# Altium schematic symbol library HR911130A.SchLib: 1 symbol
Pins are listed as number, name and electrical type; pins without a type are passive.

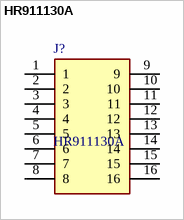
[diagram p0: symbol HR911130A]

## HR911130A
designator J?
SINGLE PORT RJ45 CONNECTOR WITH INTEGRATED MAGNETICS AND LED; Manufacturer_Name: Hanrun Electronics; Geometry.Height: 13mm; Manufacturer_Part_Number: HR911130A; Mouser Part Number: *; Mouser Price/Stock: *; Arrow Part Number: *; Arrow Price/Stock: *; Datasheet Link: https://datasheet.lcsc.com/szlcsc/Zhongshan-HanRun-Elec-HR911130A_C54408.pdf
footprint HR911130A
pins: 1, 2, 3, 4, 5, 6, 7, 8, 9, 10, 11, 12, 13, 14, 15, 16